# Altium footprint library FTDI.PcbLib: 3 footprints
Each footprint in its own frame and in the unit in brackets; x right, y up, seen from the top. Pads: shape width x height; smd on the part's side, far side on the other; paste and mask are expansions set on the pad; w line width, h text height; cw(c..) or ccw(c..) is an arc to the next point about the centre after c.
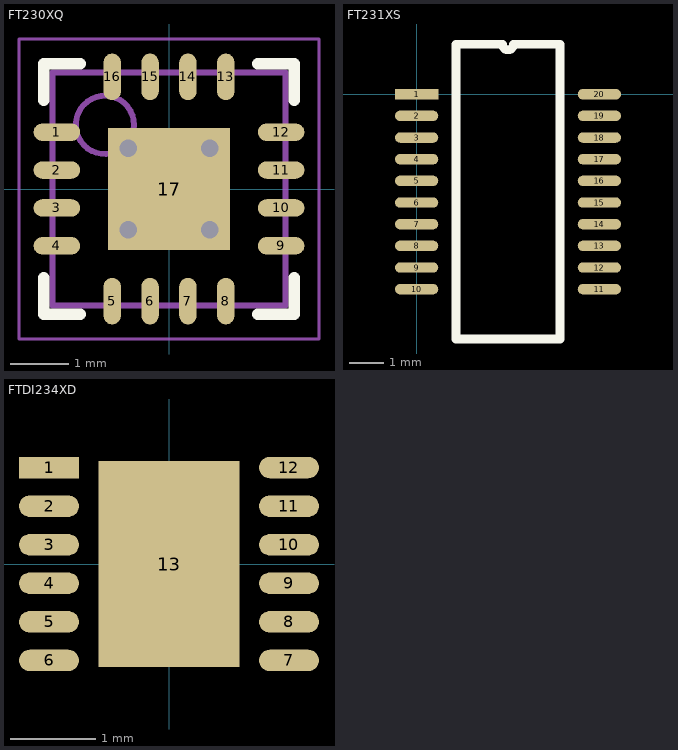
[diagram p0: the footprints below, top view; thin cyan lines are the x and y axes]

## FT230XQ [mm] "QFN 16 4x4 0.65p"
height 0.8
pads (17):
  oval 0.8x0.3 smd: 1(-1.925,0.975) 2(-1.925,0.325) 3(-1.925,-0.325) 4(-1.925,-0.975) 9(1.925,-0.975) 10(1.925,-0.325) 11(1.925,0.325) 12(1.925,0.975)
  oval 0.3x0.8 smd: 5(-0.975,-1.925) 6(-0.325,-1.925) 7(0.325,-1.925) 8(0.975,-1.925) 13(0.975,1.925) 14(0.325,1.925) 15(-0.325,1.925) 16(-0.975,1.925)
  rect 2.1x2.1 smd paste-4: 17(0,0)
via -0.7,-0.7 diameter 0.7 hole 0.3
via 0.7,-0.7 diameter 0.7 hole 0.3
via 0.7,0.7 diameter 0.7 hole 0.3
via -0.7,0.7 diameter 0.7 hole 0.3
Top Overlay:
  lines w0.2: -2.15,-1.525 -2.15,-2.15 -1.525,-2.15 ; -2.15,1.525 -2.15,2.15 -1.525,2.15 ; 1.525,-2.15 2.15,-2.15 2.15,-1.525 ; 1.525,2.15 2.15,2.15 2.15,1.525
Top Paste:
  lines w0.85: -0.6,0 0,0.6 0.6,0 0,-0.6 -0.6,0
Mechanical 13:
  circle w0.1: c-1.1,1.1 r0.5
  lines w0.1: -2,-2 2,-2 2,2 -2,2 -2,-2
Mechanical 15:
  lines w0.05: -2.575,-2.575 2.575,-2.575 2.575,2.575 -2.575,2.575 -2.575,-2.575
  lines w0.1: -0.5,0 0.5,0 ; 0,-0.5 0,0.5
3D body: height 0.92, standoff 0, extent -2,-2 2,2

## FT231XS [mil]
pads (20):
  rect 50x12 smd: 1(0,0)
  oval 50x12 smd: 2(0,-25) 3(0,-50) 4(0,-75) 5(0,-100) 6(0,-125) 7(0,-150) 8(0,-175) 9(0,-200) 10(0,-225) 11(211,-225) 12(211,-200) 13(211,-175) 14(211,-150) 15(211,-125) 16(211,-100) 17(211,-75) 18(211,-50) 19(211,-25) 20(211,0)
Top Overlay:
  lines w10: 45.5,-282.5 45.5,57.5 99.25,57.5 ccw(c105.5,57.5) 111.75,57.5 165.5,57.5 165.5,-282.5 45.5,-282.5
3D body: height 64, standoff 4, extent 15,-280 195,55

## FTDI234XD [mm]
pads (13):
  rect 0.7x0.25 smd: 1(-1.4,1.125)
  oval 0.7x0.25 smd: 2(-1.4,0.675) 3(-1.4,0.225) 4(-1.4,-0.225) 5(-1.4,-0.675) 6(-1.4,-1.125) 7(1.4,-1.125) 8(1.4,-0.675) 9(1.4,-0.225) 10(1.4,0.225) 11(1.4,0.675) 12(1.4,1.125)
  rect 1.65x2.4 smd: 13(0,0)
3D body: height 0.76, standoff 0, extent -1.501,-1.5 1.501,1.5